# Altium footprint library Micro Crystal.PcbLib: 1 footprints
Each footprint in its own frame and in the unit in brackets; x right, y up, seen from the top. Pads: shape width x height; smd on the part's side, far side on the other; paste and mask are expansions set on the pad; w line width, h text height; cw(c..) or ccw(c..) is an arc to the next point about the centre after c.
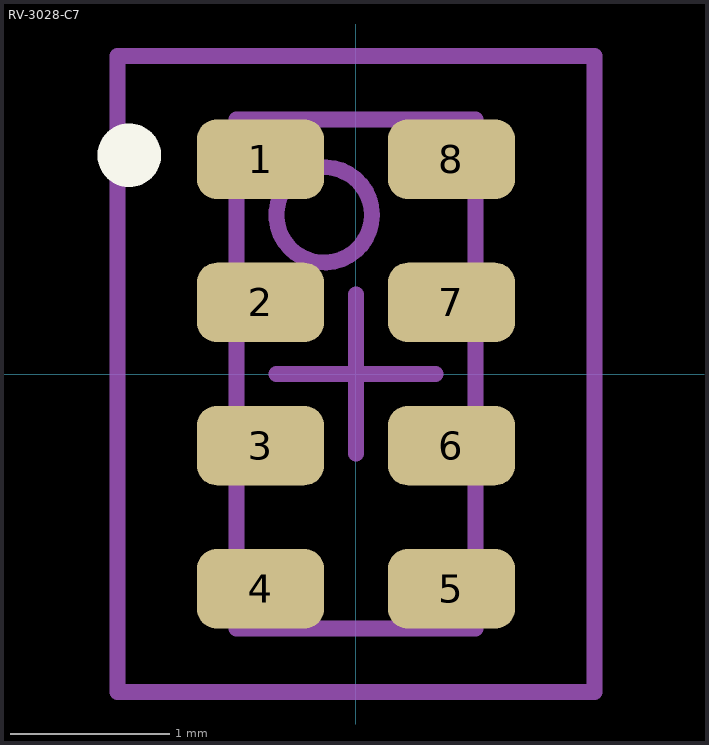
[diagram p0: the footprint, top view; thin cyan lines are the x and y axes]

## RV-3028-C7 [mm]
height 0.8
pads (8):
  rrect50% 0.8x0.5 smd: 1(-0.6,1.35) 2(-0.6,0.45) 3(-0.6,-0.45) 4(-0.6,-1.35) 5(0.6,-1.35) 6(0.6,-0.45) 7(0.6,0.45) 8(0.6,1.35)
Top Overlay:
  circle w0.2: c-1.425,1.375 r0.1
3D Top:
  circle w0.1: c-0.2,1 r0.3
  lines w0.1: -0.75,-1.6 -0.75,1.6 0.75,1.6 0.75,-1.6 -0.75,-1.6
Courtyard Top:
  lines w0.1: -0.5,0 0.5,0 ; 0,-0.5 0,0.5 ; -1.5,-2 -1.5,2 1.5,2 1.5,-2 -1.5,-2
3D body: height 0.95, standoff 0.9, extent -0.398,0.8 0,1.2
3D body: height 0.9, standoff 0.8, extent -0.75,-1.6 0.75,1.6
3D body: height 0.8, standoff 0, extent -0.75,-1.6 0.75,1.6